# Altium footprint library CSSK3637FT5L00.PcbLib: 1 footprints
Each footprint in its own frame and in the unit in brackets; x right, y up, seen from the top. Pads: shape width x height; smd on the part's side, far side on the other; paste and mask are expansions set on the pad; w line width, h text height; cw(c..) or ccw(c..) is an arc to the next point about the centre after c.
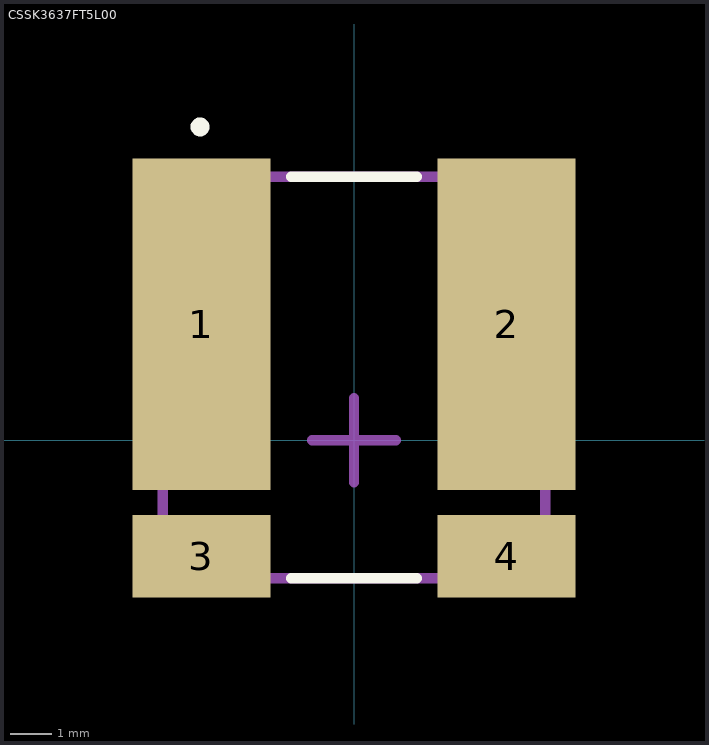
[diagram p0: the footprint, top view; thin cyan lines are the x and y axes]

## CSSK3637FT5L00 [mm]
pads (4):
  rect 3.3x7.92 smd mask+0.051: 1(-3.65,2.775) 2(3.65,2.775)
  rect 3.3x1.98 smd mask+0.051: 3(-3.65,-2.775) 4(3.65,-2.775)
Top Overlay:
  circle w0.25: c-3.683,7.493 r0.1
  lines w0.254: -1.5,-3.302 1.5,-3.302 ; -1.5,6.3 1.5,6.3
Mechanical 13 (Mech13):
  lines w0.254: -4.57,-3.3 -4.57,6.3 4.57,6.3 4.57,-3.3 -4.57,-3.3
Mechanical 15:
  lines w0.25: -1,0 0,0 ; 0,-1.008 0,0 ; 0,1 0,0 ; 1,0 0,0
3D body "CSSK3637FT5L00.stp": height 1.08, standoff 0, extent -5.102,-3.502 5.102,6.47